# Altium footprint library AMPHENOL_20021121-00006C4LF.PcbLib: 1 footprints
Each footprint in its own frame and in the unit in brackets; x right, y up, seen from the top. Pads: shape width x height; smd on the part's side, far side on the other; paste and mask are expansions set on the pad; w line width, h text height; cw(c..) or ccw(c..) is an arc to the next point about the centre after c.
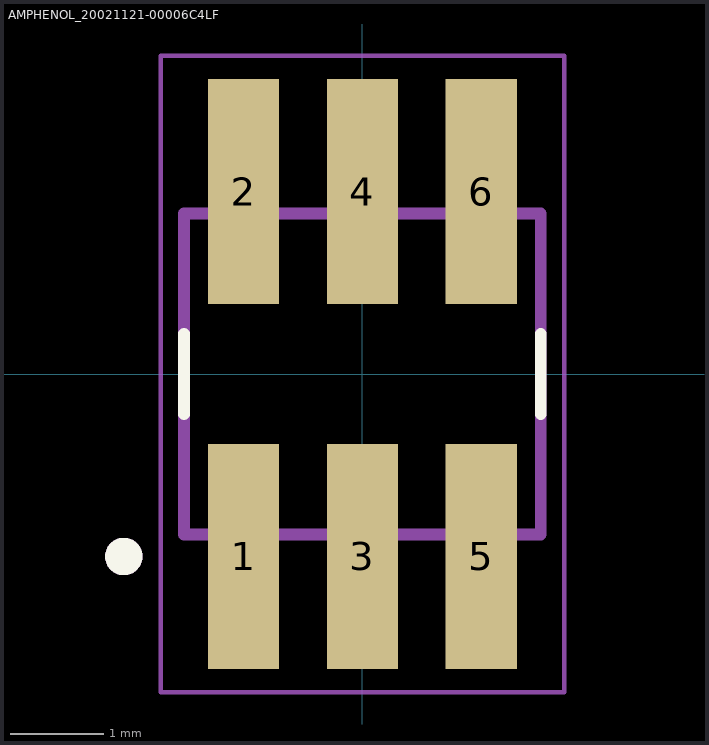
[diagram p0: the footprint, top view; thin cyan lines are the x and y axes]

## AMPHENOL_20021121-00006C4LF [mm]
pads (6):
  rect 0.76x2.4 smd: 1(-1.27,-1.95) 2(-1.27,1.95) 3(0,-1.95) 4(0,1.95) 5(1.27,-1.95) 6(1.27,1.95)
Top Overlay:
  circle w0.2: c-2.55,-1.95 r0.1
  lines w0.127: -1.905,-0.43 -1.905,0.43 ; 1.905,-0.43 1.905,0.43
Mechanical 13:
  circle w0.2: c-2.55,-1.95 r0.1
  lines w0.127: -1.905,-1.715 -1.905,1.715 1.905,1.715 1.905,-1.715 -1.905,-1.715
Mechanical 15:
  lines w0.05: -2.155,-3.4 -2.155,3.4 2.155,3.4 2.155,-3.4 -2.155,-3.4
3D body "step_temp.STEP": height 4.55, standoff 0, extent -1.905,-2.75 1.905,2.75